# EAGLE library part MAX769L (library MAX869)
MAX869L 2A, Current-Limited, High-Side P-Channel Switch with Thermal Shutdown
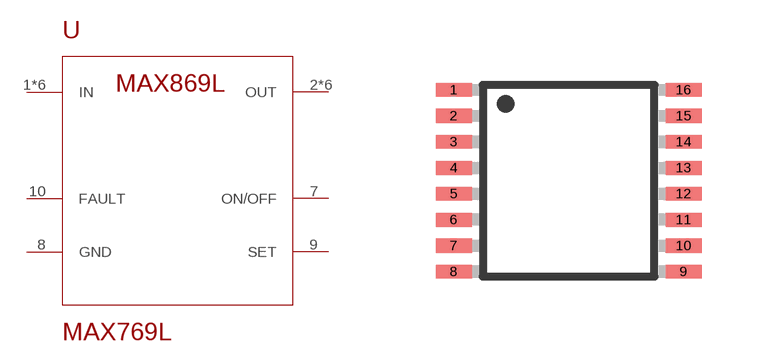
[diagram p0: symbol with the pads of TSSOP-16; footprint TSSOP-16]

Designator prefix -

## MAX769L  [TSSOP-16]
1  IN
2  OUT
3  OUT
4  IN
5  IN
6  OUT
7  ON/OFF
8  GND
9  SET
10  FAULT
11  OUT
12  IN
13  IN
14  OUT
15  OUT
16  IN

## Footprint TSSOP-16 (pad centres in mm)
16-Lead Thin Shrink Small Outline Package [TSSOP] (RU-16) Source: 8x ADG1408_1409.pdf
smd 0.9 x 0.35: 1 -2.875,2.275; 2 -2.875,1.625; 3 -2.875,0.975; 4 -2.875,0.325; 5 -2.875,-0.325; 6 -2.875,-0.975; 7 -2.875,-1.625; 8 -2.875,-2.275; 9 2.875,-2.275; 10 2.875,-1.625; 11 2.875,-0.975; 12 2.875,-0.325; 13 2.875,0.325; 14 2.875,0.975; 15 2.875,1.625; 16 2.875,2.275